# Altium schematic symbol library Jumper 7.SchLib: 1 symbol
Pins are listed as number, name and electrical type; pins without a type are passive.

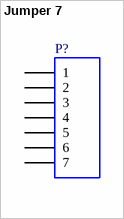
[diagram p0: symbol Jumper 7]

## Jumper 7
designator P?
Jumper / link header, 7-Pin
pins: 1, 2, 3, 4, 5, 6, 7